# Altium schematic symbol library LibTim_Semiconductors.SchLib: 7 symbols
Pins are listed as number, name and electrical type; pins without a type are passive.

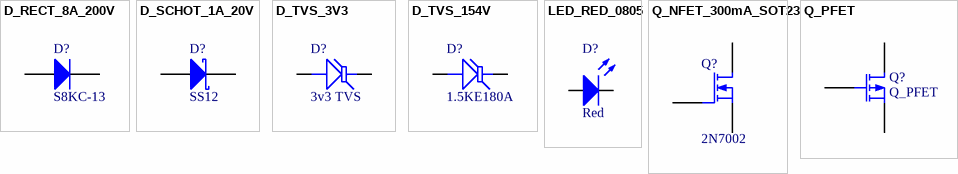
[diagram p0: symbols D_RECT_8A_200V to Q_PFET]

## D_RECT_8A_200V
designator D?, comment S8KC-13
8.0A SURFACE MOUNT GLASS PASSIVATED RECTIFIER; Manufacturer: Diodes Inc; Rated Voltage: 800 V; Rated Current: 8 A; PackageReference: DIOM6959X25M; PackageDescription: Molded Diode, 2-Leads, Body 6.85x5.90mm, IPC Low Density; ComponentLink1Description: Manufacturer Link; ComponentLink1URL: http://www.diodes.com/; ComponentLink2Description: Datasheet; ComponentLink2URL: http://www.diodes.com/_files/datasheets/ds31117.pdf; PartNumber: S8KC-13
footprint DIOM6959X25M (Molded Diode, 2-Leads, Body 6.85x5.90mm, IPC Low Density)
pins: 1 K, 2 A

## D_SCHOT_1A_20V
designator D?, comment SS12
Surface Mount Schottky Barrier Rectifier; Manufacturer: Vishay; Rated Voltage: 20 V; Rated Current: 1 A; PackageReference: DIOM4227X23M; PackageDescription: Molded Diode, 2-Leads, Body 4.25x2.67mm, IPC Low Density; ComponentLink1Description: Manufacturer Link; ComponentLink1URL: http://www.vishay.com/; ComponentLink2Description: Datasheet; ComponentLink2URL: http://www.vishay.com/docs/88746/ss12.pdf; PartNumber: SS12
footprint DIOM4227X23M (Molded Diode, 2-Leads, Body 4.25x2.67mm, IPC Low Density)
pins: 1 K, 2 A

## D_TVS_3V3
designator D?, comment 3v3 TVS
Transient Voltage Suppression (TVS) Diode; PartNumber: SMBJ3V3-E3/52; Value: 3.3 V; PackageDescription: Molded Diode, 2-Leads, Body 4.31x3.62mm, IPC Low Density; PackageReference: DIOM433X24M; ComponentLink1Description: Manufacturer Link; ComponentLink2Description: Datasheet
footprint DIOM4336X24M (Molded Diode, 2-Leads, Body 4.31x3.62mm, IPC Low Density)
pins: 1 K, 2 A

## D_TVS_154V
designator D?, comment 1.5KE180A
Transient Voltage Suppression (TVS) Diode; Value: 154V; PackageDescription: Axial Lead Diode; PackageReference: DIOAD1742W107L950D530; PartNumber: 1.5KE180A; ComponentLink1Description: Manufacturer Link; ComponentLink2Description: Datasheet
footprint DIOAD1742W107L950D530
pins: A, K

## LED_RED_0805
designator D?, comment Red
RED 0805 LED; PartNumber: LTST-C170KRKT; Manufacturer: Liteon; Rated Current: 20 mA; Rated Voltage: 2 V; PackageDescription: 0805; Color: Red; ComponentLink1Description: Manufacturer Link; ComponentLink1URL: http://optoelectronics.liteon.com; ComponentLink2Description: Datasheet
simulation model LED1 (Diode)
footprint DIOC2012X12M (Chip Diode, 2-Leads, Body 2.00x1.25mm, IPC Low Density)
pins: 1 A, 2 K

## Q_NFET_300mA_SOT23
designator Q?, comment 2N7002
60 V, 300 mA N-channel Trench MOSFET; Manufacturer: NXP Semiconductors; Rated Current: 300 mA; PackageReference: SOT95P230X110-3M; PackageDescription: SOT23, 3-Leads, Body 2.90x2.30mm, Pitch 0.95mm, IPC Low Density; ComponentLink1Description: Manufacturer Link; ComponentLink1URL: http://www.nxp.com/; ComponentLink2Description: Datasheet; ComponentLink2URL: https://www.nxp.com/documents/data_sheet/2N7002.pdf; PartNumber: 2N7002
simulation model NMOS (MOSFET-N)
footprint SOT95P230X110-3M (SOT23, 3-Leads, Body 2.90x2.30mm, Pitch 0.95mm, IPC Low Density)
pins: 1 G "Gate", 2 S "Source", 3 D "Drain"

## Q_PFET
designator Q?
P-Channel MOSFET; PackageReference: E3; PackageDescription: TO, Flat Index; 3 In-Line, Axial Leads; Body Dia. 4.6mm; Lead Dia. 0.5 mm (max); ComponentLink1Description: Manufacturer Link; ComponentLink2Description: Datasheet
footprint E3 (TO, Flat Index; 3 In-Line, Axial Leads; Body Dia. 4.6mm; Lead Dia. 0.5 mm (max))
simulation model PMOS (MOSFET-P)
pins: 1 D, 2 G, 3 S